# EAGLE library part FPC_30 (library dawidkulpa_con)
30 pins FPC connector
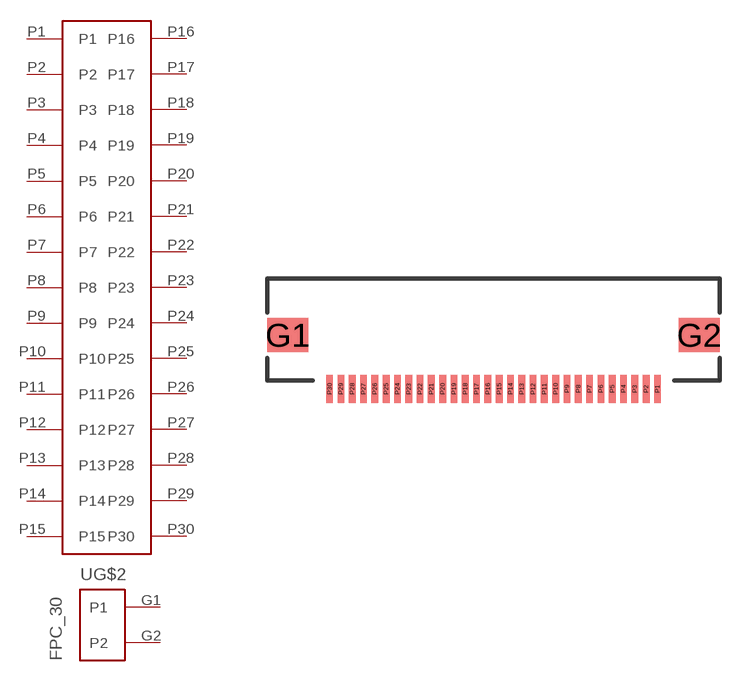
[diagram p2: symbol with the pads of FPC_30_05MM; footprint FPC_30_05MM]

Designator prefix -; gates G$1=CONN_30 G$2=CONN_02

## FPC_30  [FPC_30_05MM]
G1  G$2:P1
G2  G$2:P2
P1  G$1:P1
P2  G$1:P2
P3  G$1:P3
P4  G$1:P4
P5  G$1:P5
P6  G$1:P6
P7  G$1:P7
P8  G$1:P8
P9  G$1:P9
P10  G$1:P10
P11  G$1:P11
P12  G$1:P12
P13  G$1:P13
P14  G$1:P14
P15  G$1:P15
P16  G$1:P16
P17  G$1:P17
P18  G$1:P18
P19  G$1:P19
P20  G$1:P20
P21  G$1:P21
P22  G$1:P22
P23  G$1:P23
P24  G$1:P24
P25  G$1:P25
P26  G$1:P26
P27  G$1:P27
P28  G$1:P28
P29  G$1:P29
P30  G$1:P30

## Footprint FPC_30_05MM (pad centres in mm)
smd 1.8 x 1.5: G1 -9.1,3; G2 9.1,3
smd 0.3 x 1.25: P1 7.25,0.625; P2 6.75,0.625; P3 6.25,0.625; P4 5.75,0.625; P5 5.25,0.625; P6 4.75,0.625; P7 4.25,0.625; P8 3.75,0.625; P9 3.25,0.625; P10 2.75,0.625; P11 2.25,0.625; P12 1.75,0.625; P13 1.25,0.625; P14 0.75,0.625; P15 0.25,0.625; P16 -0.25,0.625; P17 -0.75,0.625; P18 -1.25,0.625; P19 -1.75,0.625; P20 -2.25,0.625; P21 -2.75,0.625; P22 -3.25,0.625; P23 -3.75,0.625; P24 -4.25,0.625; P25 -4.75,0.625; P26 -5.25,0.625; P27 -5.75,0.625; P28 -6.25,0.625; P29 -6.75,0.625; P30 -7.25,0.625